# Altium footprint library Pcb_Others.PcbLib: 3 footprints
Each footprint in its own frame and in the unit in brackets; x right, y up, seen from the top. Pads: shape width x height; smd on the part's side, far side on the other; paste and mask are expansions set on the pad; w line width, h text height; cw(c..) or ccw(c..) is an arc to the next point about the centre after c.
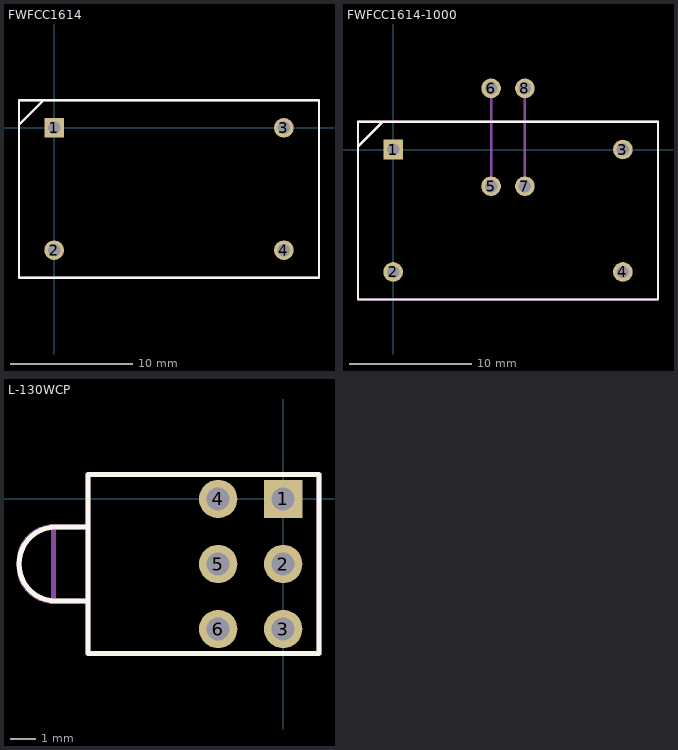
[diagram p0: the footprints below, top view; thin cyan lines are the x and y axes]

## FWFCC1614 [mm] "Frame Core Power Line Chokes"
pads (4):
  rect 1.6x1.6 hole 1: 1(0,0)
  round 1.6 hole 1: 2(0,-10) 3(18.75,0) 4(18.75,-10)
Top Overlay:
  lines w0.2: -2.875,0.25 -0.875,2.25 ; -2.875,-12.25 -2.875,2.25 21.625,2.25 21.625,-12.25 -2.875,-12.25
Top Assy (Mech13):
  lines w0.2: -2.875,0.25 -0.875,2.25 ; -2.875,-12.25 21.625,-12.25 21.625,2.25 -2.875,2.25 -2.875,-12.25
  text ".Designator" at 3.537,-6.6 h2

## FWFCC1614-1000 [mm] "Frame Core Power Line Chokes"
pads (8):
  rect 1.6x1.6 hole 1: 1(0,0)
  round 1.6 hole 1: 2(0,-10) 3(18.75,0) 4(18.75,-10) 5(8,-3) 6(8,5) 7(10.75,-3) 8(10.75,5)
Top Overlay:
  lines w0.2: -2.875,0.25 -0.875,2.25 ; -2.875,-12.25 21.625,-12.25 21.625,2.25 -2.875,2.25 -2.875,-12.25
Top Assy (Mech13):
  lines w0.2: -2.875,0.25 -0.875,2.25 ; 8,-3 8,5 ; 10.75,-3 10.75,5 ; -2.875,-12.25 -2.875,2.25 21.625,2.25 21.625,-12.25 -2.875,-12.25
  text ".Designator" at 3.537,-6.6 h2

## L-130WCP [mm] "T-1 (3 mm) Bi-Level Circuit Board Indicator"
pads (6):
  rect 1.5x1.5 hole 0.9: 1(0,0)
  round 1.5 hole 0.9: 2(0,-2.54) 3(0,-5.08) 4(-2.54,0) 5(-2.54,-2.54) 6(-2.54,-5.08)
Top Overlay:
  lines w0.2: -7.62,-3.99 -8.87,-3.99 cw(c-8.87,-2.54) -8.87,-1.09 -7.62,-1.09 ; -7.62,-6.04 1.4,-6.04 1.4,0.96 -7.62,0.96 -7.62,-6.04
Top Assy (Mech13):
  lines w0.2: -7.62,-3.99 -8.97,-3.99 ; -7.62,-1.09 -8.97,-1.09 ; -8.97,-3.99 cw(c-8.97,-2.64) -10.32,-2.64 -10.32,-2.44 cw(c-8.97,-2.44) -8.97,-1.09 ; -8.97,-3.99 -8.97,-1.09 ; -7.62,-6.04 1.4,-6.04 1.4,0.96 -7.62,0.96 -7.62,-6.04
  text ".Designator" at -6.392,-3.5 h2
3D body "L-130WCP.SLDPRT": height 9.72, standoff -3.42, extent -10.32,-6 1.4,1